# Altium schematic symbol library PCM5242.SchLib: 1 symbol
Pins are listed as number, name and electrical type; pins without a type are passive.

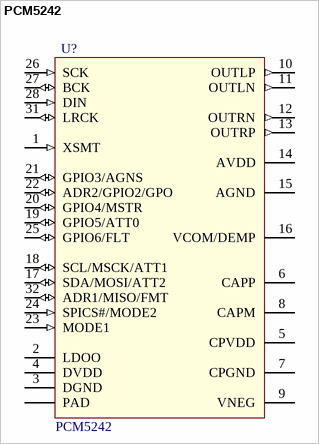
[diagram p0: symbol PCM5242]

## PCM5242
designator U?
4.2-VRMS DirectPathTM, 114-dB Audio Stereo Differential-Output DAC with 32-bit, / 384-kHz PCM Interface; value: PCM1794A
footprint QFN-32-5X5
pins: 1 XSMT (in), 2 LDOO (power), 3 DGND (power), 4 DVDD (power), 5 CPVDD (power), 6 CAPP (power), 7 CPGND (power), 8 CAPM (power), 9 VNEG (power), 10 OUTLP (out), 11 OUTLN (out), 12 OUTRN (out), 13 OUTRP (out), 14 AVDD (power), 15 AGND (power), 16 VCOM/DEMP, 17 SDA/MOSI/ATT2 (io), 18 SCL/MSCK/ATT1 (io), 19 GPIO5/ATT0 (io), 20 GPIO4/MSTR (io), 21 GPIO3/AGNS (io), 22 ADR2/GPIO2/GPO (io), 23 MODE1 (in), 24 SPICS#/MODE2 (in), 25 GPIO6/FLT (io), 26 SCK (in), 27 BCK (io), 28 DIN (in), 31 LRCK (io), 32 ADR1/MISO/FMT (io), 33 PAD